# Altium footprint library MM8030-2610RJ3.PcbLib: 1 footprints
Each footprint in its own frame and in the unit in brackets; x right, y up, seen from the top. Pads: shape width x height; smd on the part's side, far side on the other; paste and mask are expansions set on the pad; w line width, h text height; cw(c..) or ccw(c..) is an arc to the next point about the centre after c.
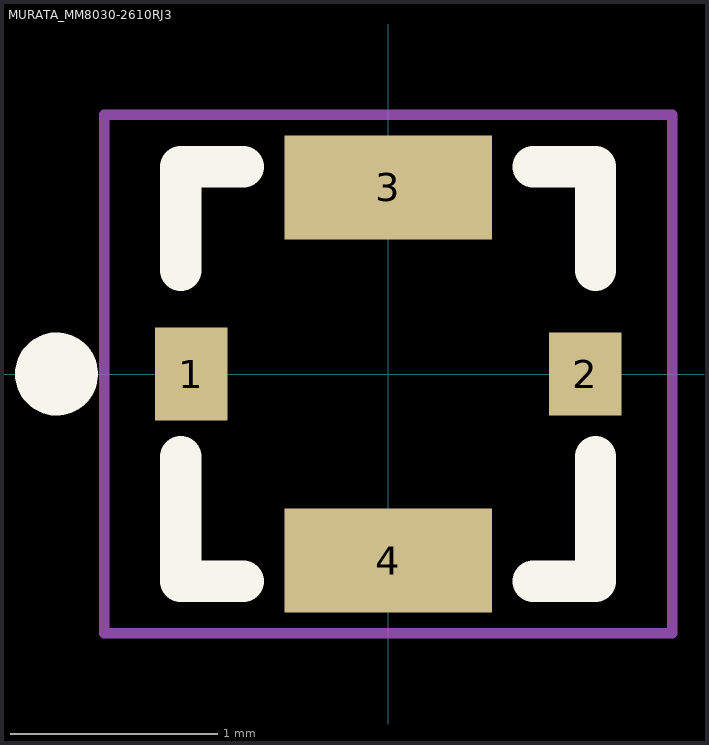
[diagram p0: the footprint, top view; thin cyan lines are the x and y axes]

## MURATA_MM8030-2610RJ3 [mm]
pads (4):
  rect 0.35x0.45 smd paste-25.4 mask-25.4: 1(-0.95,0)
  rect 0.35x0.4 smd paste-25.4 mask-25.4: 2(0.95,0)
  rect 1x0.5 smd paste-25.4 mask-25.4: 3(0,0.9) 4(0,-0.9)
Top Overlay:
  circle w0.2: c-1.6,0 r0.1
  lines w0.2: -1,-0.4 -1,-1 -0.7,-1 ; -1,0.5 -1,1 -0.7,1 ; 0.7,-1 1,-1 1,-0.4 ; 0.7,1 1,1 1,0.5
Top Paste:
  region: -0.5,-1.15 0.5,-1.15 0.5,-0.65 -0.5,-0.65
  region: -0.5,0.65 0.5,0.65 0.5,1.15 -0.5,1.15
  region: 0.775,-0.2 1.125,-0.2 1.125,0.2 0.775,0.2
  region: -1.125,-0.225 -0.775,-0.225 -0.775,0.225 -1.125,0.225
Top Solder:
  region: -0.6,-1.25 0.6,-1.25 0.6,-0.55 -0.6,-0.55
  region: -0.6,0.55 0.6,0.55 0.6,1.25 -0.6,1.25
  region: 0.675,-0.3 1.225,-0.3 1.225,0.3 0.675,0.3
  region: -1.225,-0.325 -0.675,-0.325 -0.675,0.325 -1.225,0.325
Mechanical 1:
  lines w0.05: -1.37,-1.25 -1.37,1.25 -1.35,1.25 1.37,1.25 1.37,-1.25 -1.37,-1.25